# EAGLE library part MR25H40MDF (library maholli)
NVRAM 4Mb 3.3V 512Kx8 SPI Source: Datasheet <https://www.everspin.com/file/217/download>
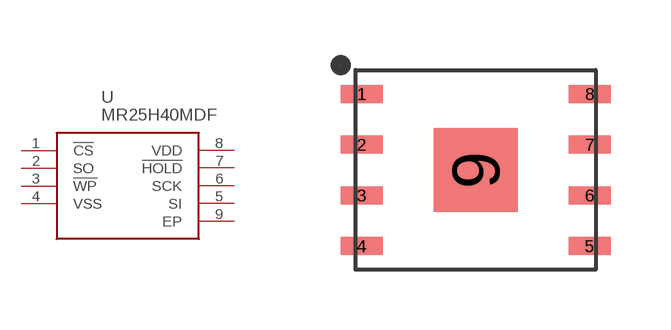
[diagram p25: symbol with the pads of SON127P600X500X90-9N; footprint SON127P600X500X90-9N]

Designator prefix U

## MR25H40MDF (ARROW_PART_NUMBER: MR25H40MDF; ARROW_PRICE/STOCK: https://www.arrow.com/en/products/mr25h40mdf/everspin-technologies; DESCRIPTION: NVRAM 4Mb 3.3V 512Kx8 SPI; HEIGHT: 0.9mm; MANUFACTURER_NAME: Everspin Technologies; MANUFACTURER_PART_NUMBER: MR25H40MDF)  [SON127P600X500X90-9N]
1  !CS
2  SO
3  !WP
4  VSS
5  SI
6  SCK
7  !HOLD
8  VDD
9  EP

## Footprint SON127P600X500X90-9N (pad centres in mm)
DFN Small Flag Package
smd 1.05 x 0.45: 1 -2.85,1.905; 2 -2.85,0.635; 3 -2.85,-0.635; 4 -2.85,-1.905; 5 2.85,-1.905; 6 2.85,-0.635; 7 2.85,0.635; 8 2.85,1.905
smd 2.1 x 2.1: 9 0,0